# Altium integrated library buzzer (2).IntLib: 39 symbols
Pins are listed as number, name and electrical type; pins without a type are passive.

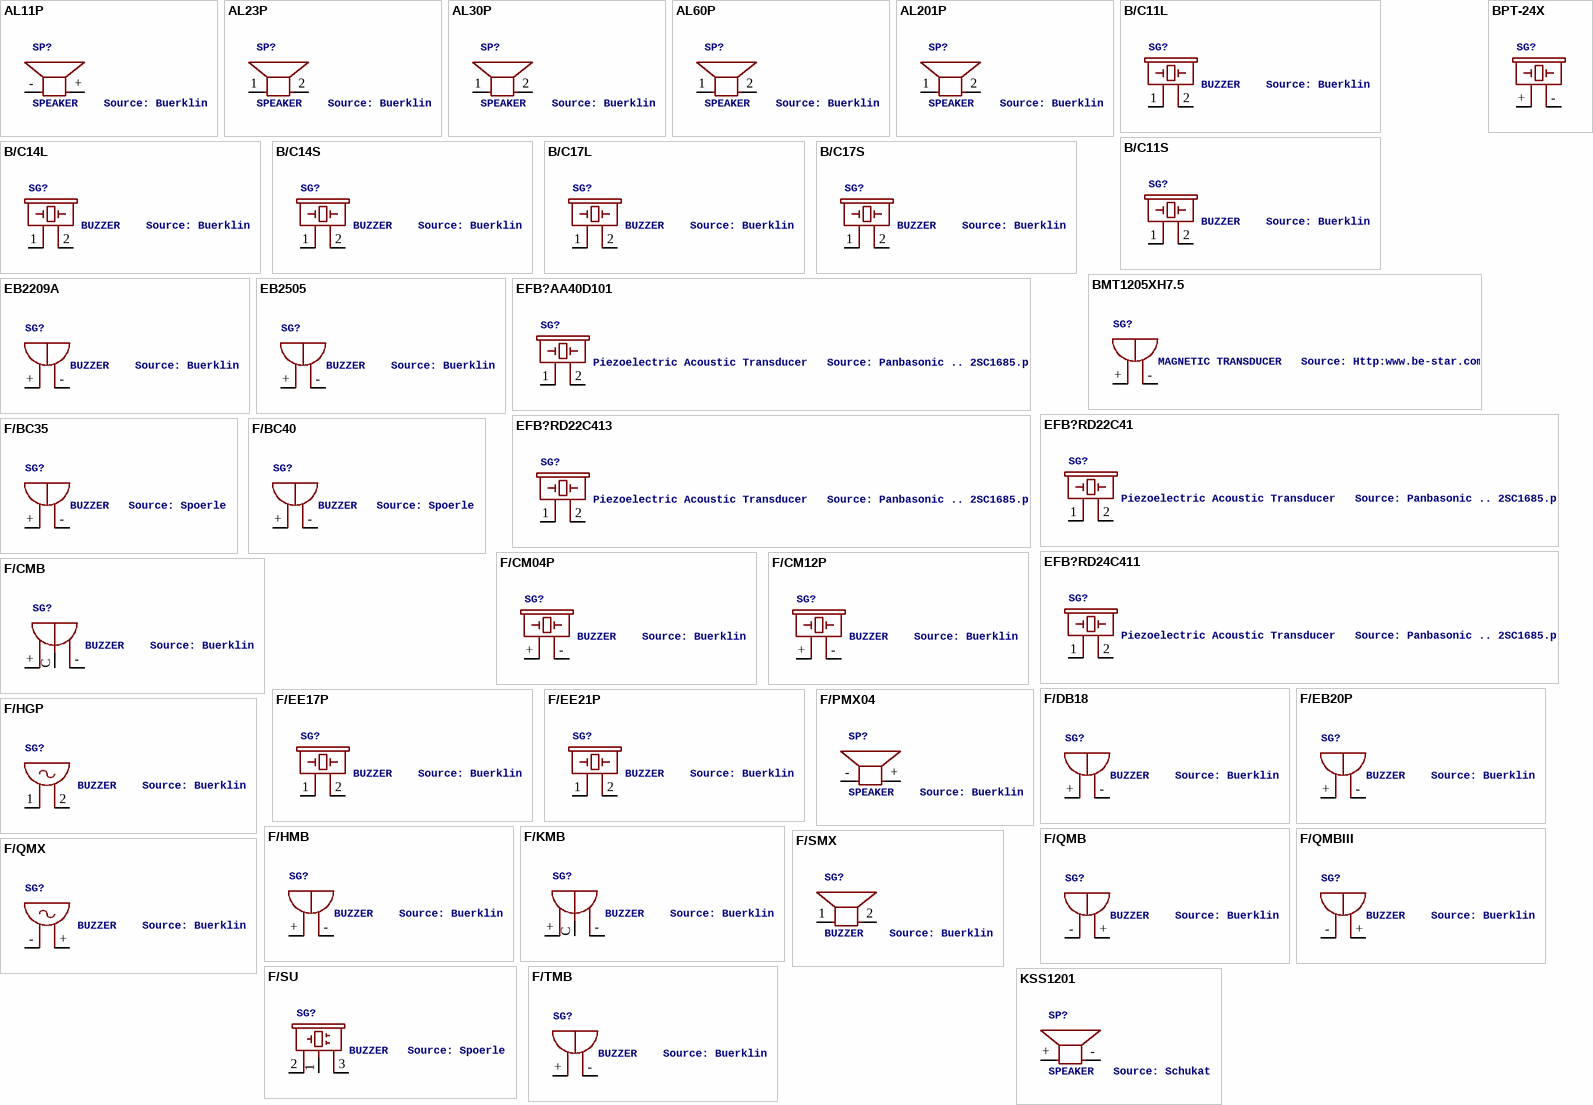
[diagram p0: symbols AL11P to KSS1201]

## AL11P
designator SP?, comment SPEAKER    Source: Buerklin
OC_FARNELL: unknown; OC_NEWARK: unknown
footprint AL11P
pins: + 2, - 1

## AL23P
designator SP?, comment SPEAKER    Source: Buerklin
OC_FARNELL: unknown; OC_NEWARK: unknown
footprint AL23P
pins: 1, 2

## AL30P
designator SP?, comment SPEAKER    Source: Buerklin
OC_FARNELL: unknown; OC_NEWARK: unknown
footprint AL30P
pins: 1, 2

## AL60P
designator SP?, comment SPEAKER    Source: Buerklin
OC_FARNELL: unknown; OC_NEWARK: unknown
footprint AL60P
pins: 1, 2

## AL201P
designator SP?, comment SPEAKER    Source: Buerklin
OC_FARNELL: unknown; OC_NEWARK: unknown
footprint AL201P
pins: 1, 2

## B/C11L
designator SG?, comment BUZZER    Source: Buerklin
OC_FARNELL: unknown; OC_NEWARK: unknown
footprint B/C11L
pins: 1, 2

## B/C11S
designator SG?, comment BUZZER    Source: Buerklin
OC_FARNELL: unknown; OC_NEWARK: unknown
footprint B/C11S
pins: 1, 2

## B/C14L
designator SG?, comment BUZZER    Source: Buerklin
OC_FARNELL: unknown; OC_NEWARK: unknown
footprint B/C14L
pins: 1, 2

## B/C14S
designator SG?, comment BUZZER    Source: Buerklin
OC_FARNELL: unknown; OC_NEWARK: unknown
footprint B/C14S
pins: 1, 2

## B/C17L
designator SG?, comment BUZZER    Source: Buerklin
OC_FARNELL: unknown; OC_NEWARK: unknown
footprint B/C17L
pins: 1, 2

## B/C17S
designator SG?, comment BUZZER    Source: Buerklin
OC_FARNELL: unknown; OC_NEWARK: unknown
footprint B/C17S
pins: 1, 2

## BMT1205XH7.5
designator SG?, comment MAGNETIC TRANSDUCER   Source: Http:www.be-star.com
OC_FARNELL: unknown; OC_NEWARK: unknown
footprint BMT1205XH7.5
pins: +, -

## BPT-24X
designator SG?
OC_FARNELL: unknown; OC_NEWARK: unknown
footprint BPT-24X
pins: + 1, - 2

## EB2209A
designator SG?, comment BUZZER    Source: Buerklin
OC_FARNELL: unknown; OC_NEWARK: unknown
footprint EB2209A
pins: +, -

## EB2505
designator SG?, comment BUZZER    Source: Buerklin
OC_FARNELL: unknown; OC_NEWARK: unknown
footprint EB2505
pins: +, -

## EFB?AA40D101
designator SG?, comment Piezoelectric Acoustic Transducer   Source: Panbasonic .. 2SC1685.pdf
OC_FARNELL: unknown; OC_NEWARK: unknown
footprint EFBAA40D101
pins: 1, 2

## EFB?RD22C41
designator SG?, comment Piezoelectric Acoustic Transducer   Source: Panbasonic .. 2SC1685.pdf
OC_FARNELL: unknown; OC_NEWARK: unknown
footprint EFBRD22C41
pins: 1, 2

## EFB?RD22C413
designator SG?, comment Piezoelectric Acoustic Transducer   Source: Panbasonic .. 2SC1685.pdf
OC_FARNELL: unknown; OC_NEWARK: unknown
footprint EFBRD22C413
pins: 1, 2

## EFB?RD24C411
designator SG?, comment Piezoelectric Acoustic Transducer   Source: Panbasonic .. 2SC1685.pdf
OC_FARNELL: unknown; OC_NEWARK: unknown
footprint EFBRD24C411
pins: 1, 2

## F/BC35
designator SG?, comment BUZZER   Source: Spoerle
OC_FARNELL: unknown; OC_NEWARK: unknown
footprint F/BC35
pins: +, -

## F/BC40
designator SG?, comment BUZZER   Source: Spoerle
OC_FARNELL: unknown; OC_NEWARK: unknown
footprint F/BC40
pins: +, -

## F/CM04P
designator SG?, comment BUZZER    Source: Buerklin
OC_FARNELL: unknown; OC_NEWARK: unknown
footprint F/CM04P
pins: + 1, - 2

## F/CM12P
designator SG?, comment BUZZER    Source: Buerklin
OC_FARNELL: unknown; OC_NEWARK: unknown
footprint F/CM12P
pins: + 1, - 2

## F/CMB
designator SG?, comment BUZZER    Source: Buerklin
OC_FARNELL: unknown; OC_NEWARK: unknown
footprint F/CMB
pins: +, -, C T

## F/DB18
designator SG?, comment BUZZER    Source: Buerklin
OC_FARNELL: unknown; OC_NEWARK: unknown
footprint F/DB18
pins: +, -

## F/EB20P
designator SG?, comment BUZZER    Source: Buerklin
OC_FARNELL: unknown; OC_NEWARK: unknown
footprint F/EB20P
pins: +, -

## F/EE17P
designator SG?, comment BUZZER    Source: Buerklin
OC_FARNELL: unknown; OC_NEWARK: unknown
footprint F/EE17P
pins: 1, 2

## F/EE21P
designator SG?, comment BUZZER    Source: Buerklin
OC_FARNELL: unknown; OC_NEWARK: unknown
footprint F/EE21P
pins: 1, 2

## F/HGP
designator SG?, comment BUZZER    Source: Buerklin
OC_FARNELL: unknown; OC_NEWARK: unknown
footprint F/HGP
pins: 1, 2

## F/HMB
designator SG?, comment BUZZER    Source: Buerklin
OC_FARNELL: unknown; OC_NEWARK: unknown
footprint F/HMB
pins: +, -

## F/KMB
designator SG?, comment BUZZER    Source: Buerklin
OC_FARNELL: unknown; OC_NEWARK: unknown
footprint F/KMB
pins: +, -, C T

## F/PMX04
designator SP?, comment SPEAKER    Source: Buerklin
OC_FARNELL: unknown; OC_NEWARK: unknown
footprint F/PMX04A
pins: + 2, - 1

## F/QMB
designator SG?, comment BUZZER    Source: Buerklin
OC_FARNELL: unknown; OC_NEWARK: unknown
footprint F/QMB
pins: + -, - +

## F/QMBIII
designator SG?, comment BUZZER    Source: Buerklin
OC_FARNELL: unknown; OC_NEWARK: unknown
footprint F/QMBIII
pins: + -, - +

## F/QMX
designator SG?, comment BUZZER    Source: Buerklin
OC_FARNELL: unknown; OC_NEWARK: unknown
footprint F/QMX
pins: + 2, - 1

## F/SMX
designator SG?, comment BUZZER    Source: Buerklin
OC_FARNELL: unknown; OC_NEWARK: unknown
footprint F/SMX
pins: 1, 2

## F/SU
designator SG?, comment BUZZER   Source: Spoerle
OC_FARNELL: unknown; OC_NEWARK: unknown
footprint F/SU
pins: 1, 2, 3

## F/TMB
designator SG?, comment BUZZER    Source: Buerklin
OC_FARNELL: unknown; OC_NEWARK: unknown
footprint F/TMB
pins: +, -

## KSS1201
designator SP?, comment SPEAKER   Source: Schukat
OC_FARNELL: unknown; OC_NEWARK: unknown
footprint KSS1201
pins: + 1, - 2